# Altium footprint library CAP_SMD.PcbLib: 8 footprints
Each footprint in its own frame and in the unit in brackets; x right, y up, seen from the top. Pads: shape width x height; smd on the part's side, far side on the other; paste and mask are expansions set on the pad; w line width, h text height; cw(c..) or ccw(c..) is an arc to the next point about the centre after c.
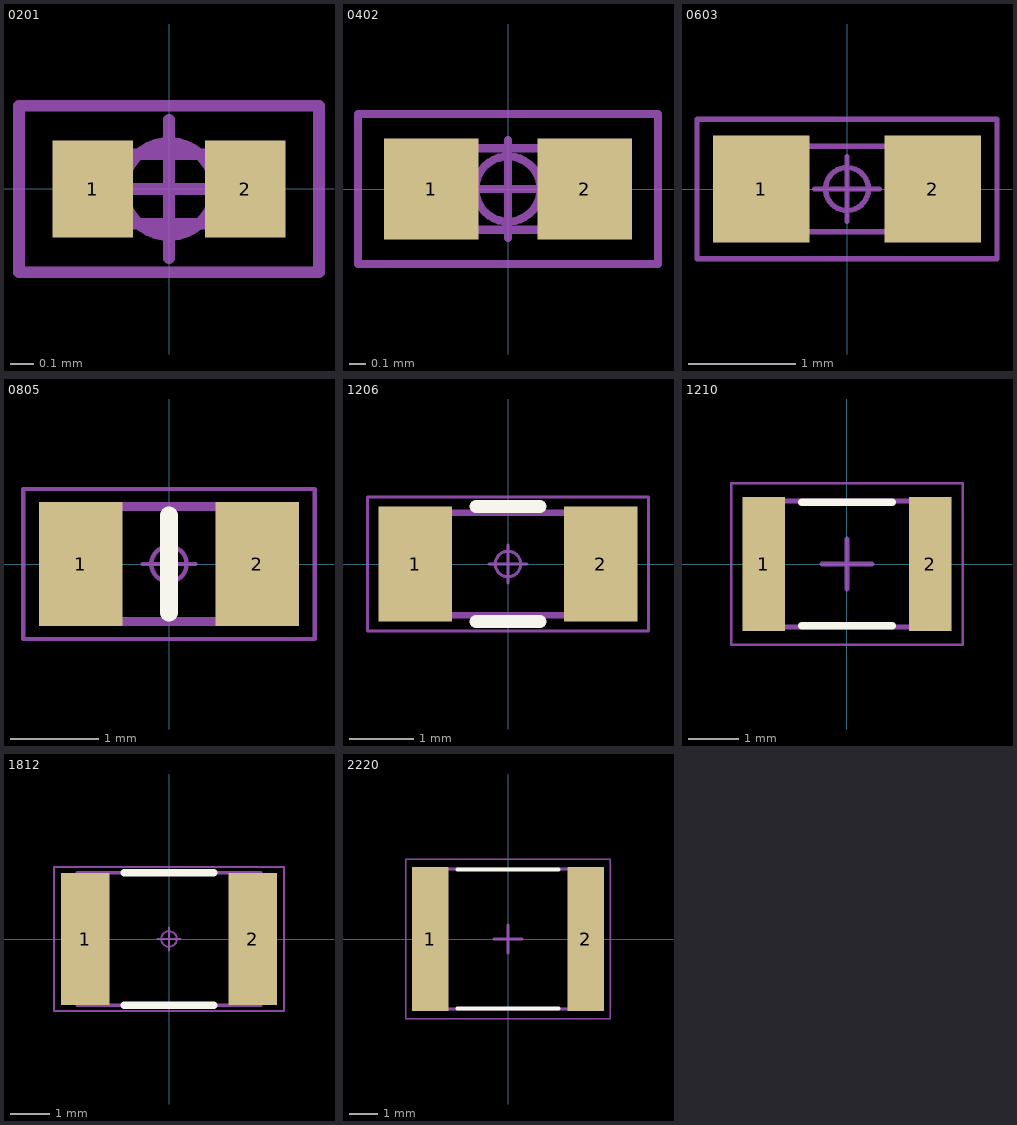
[diagram p0: the footprints below, top view; thin cyan lines are the x and y axes]

## 0201 [mm] "Chip Resistor, EIA 0201, Metric 0603, Body 0.6 x 0.3mm, IPC Medium Density"
height 0.28
pads (2):
  rect 0.35x0.42 smd: 1(-0.33,0) 2(0.33,0)
ASM Top:
  lines w0.05: -0.3,-0.15 0.3,-0.15 0.3,0.15 -0.3,0.15 -0.3,-0.15
  text ".Designator" at -0.18,-0.09 h0.15
PNP Top:
  circle w0.05: c0,0 r0.2
  lines w0.05: -0.3,0 0.3,0 ; 0,-0.3 0,0.3 ; -0.65,-0.36 0.65,-0.36 0.65,0.36 -0.65,0.36 -0.65,-0.36
3D body "CAPC0603X33N.stp": height 0.33, standoff 0, extent -0.315,-0.165 0.315,0.165

## 0402 [mm] "Chip Resistor, EIA 0402, Metric 1005, Body 1.0x0.5mm, IPC Medium Density"
height 0.4
pads (2):
  rect 0.58x0.62 smd: 1(-0.47,0) 2(0.47,0)
ASM Top:
  lines w0.05: -0.5,-0.25 -0.5,0.25 0.5,0.25 0.5,-0.25 -0.5,-0.25
  text ".Designator" at -0.35,-0.13 h0.25
PNP Top:
  circle w0.05: c0,0 r0.2
  lines w0.05: -0.3,0 0.3,0 ; 0,-0.3 0,0.3 ; -0.92,-0.46 0.92,-0.46 0.92,0.46 -0.92,0.46 -0.92,-0.46
3D body "CAPC1005X55N.stp": height 0.55, standoff 0, extent -0.525,-0.275 0.525,0.275

## 0603 [mm] "Chip Resistor, EIA 0603, Metric 1608, Body 1.6x0.8mm, IPC Medium Density"
height 0.55
pads (2):
  rect 0.9x1 smd: 1(-0.8,0) 2(0.8,0)
ASM Top:
  lines w0.05: -0.85,-0.4 0.85,-0.4 0.85,0.4 -0.85,0.4 -0.85,-0.4
  text ".Designator" at -0.7,-0.2 h0.4
PNP Top:
  circle w0.05: c0,0 r0.2
  lines w0.05: -0.3,0 0.3,0 ; 0,-0.3 0,0.3 ; -1.4,-0.65 -1.4,0.65 1.4,0.65 1.4,-0.65 -1.4,-0.65
3D body "CAPC1608X85N.stp": height 0.85, standoff 0, extent -0.875,-0.475 0.875,0.475

## 0805 [mm] "Chip Resistor, EIA 0805, Metric 2012, Body 2.0x1.2mm, IPC Medium Density"
height 0.6
pads (2):
  rect 0.95x1.4 smd: 1(-1,0) 2(1,0)
Top Overlay:
  lines w0.2: 0,-0.55 0,0.55
ASM Top:
  lines w0.1: -1.05,-0.65 -1.05,0.65 1.05,0.65 1.05,-0.65 -1.05,-0.65
  text ".Designator" at -0.85,-0.25 h0.5
PNP Top:
  circle w0.05: c0,0 r0.2
  lines w0.05: -0.3,0 0.3,0 ; 0,-0.3 0,0.3 ; -1.65,-0.85 -1.65,0.85 1.65,0.85 1.65,-0.85 -1.65,-0.85
3D body "CAPC2012X110N.stp": height 1.1, standoff 0, extent -1.05,-0.675 1.05,0.675

## 1206 [mm] "Chip Resistor, EIA 1206, Metric 3216, Body 3.2x1.6mm, IPC Medium Density"
height 0.7
pads (2):
  rect 1.15x1.8 smd: 1(-1.45,0) 2(1.45,0)
Top Overlay:
  lines w0.2: -0.5,-0.9 0.5,-0.9 ; -0.5,0.9 0.5,0.9
ASM Top:
  lines w0.1: -1.6,-0.8 1.6,-0.8 1.6,0.8 -1.6,0.8 -1.6,-0.8
  text ".Designator" at -0.85,-0.3 h0.6
PNP Top:
  circle w0.05: c0,0 r0.2
  lines w0.05: -0.3,0 0.3,0 ; 0,-0.3 0,0.3 ; -2.2,-1.05 2.2,-1.05 2.2,1.05 -2.2,1.05 -2.2,-1.05
3D body "CAPC3216X94N.stp": height 0.94, standoff 0, extent -1.7,-0.9 1.7,0.9

## 1210 [mm] "Chip Capacitor, 2-Leads, Body 3,20x2,50mm, IPC Medium Density"
height 2.2
pads (2):
  rect 0.85x2.65 smd: 1(-1.65,0) 2(1.65,0)
Top Overlay:
  lines w0.15: -0.9,-1.225 0.9,-1.225 ; -0.9,1.225 0.9,1.225
ASM Top:
  lines w0.1: -1.65,-1.25 -1.65,1.25 1.65,1.25 1.65,-1.25 -1.65,-1.25
  text ".Designator" at -0.8,-0.4 h0.7
PNP Top:
  lines w0.05: -2.3,-1.6 -2.3,1.6 2.3,1.6 2.3,-1.6 -2.3,-1.6
  lines w0.1: -0.5,0 0.5,0 ; 0,-0.5 0,0.5
3D body "CAPC3225X22N.step": height 2.2, standoff 0, extent -1.6,-1.25 1.6,1.25

## 1812 [mm] "Chip Resistor, EIA 1812, Metric 4532, 2-Leads, Body 4.5x3.2mm, IPC Medium Density"
height 0.7
pads (2):
  rect 1.25x3.4 smd: 1(-2.15,0) 2(2.15,0)
Top Overlay:
  lines w0.2: -1.15,-1.7 1.15,-1.7 ; -1.15,1.7 1.15,1.7
ASM Top:
  lines w0.1: -2.35,-1.7 -2.35,1.7 2.35,1.7 2.35,-1.7 -2.35,-1.7
  text ".Designator" at -1.7,-0.45 h1
PNP Top:
  circle w0.05: c0,0 r0.2
  lines w0.05: -0.3,0 0.3,0 ; 0,-0.3 0,0.3 ; -2.95,-1.85 -2.95,1.85 2.95,1.85 2.95,-1.85 -2.95,-1.85
3D body "CAPC4532X110N.stp": height 1.1, standoff 0, extent -2.25,-1.6 2.25,1.6

## 2220 [mm] "Chip Capacitor, 2-Leads, Body 5,90x5,00mm, IPC Medium Density"
height 2.55
pads (2):
  rect 1.3x5.15 smd: 1(-2.775,0) 2(2.775,0)
Top Overlay:
  lines w0.15: -1.8,-2.475 1.8,-2.475 ; -1.8,2.475 1.8,2.475
ASM Top:
  lines w0.1: -2.8,-2.5 -2.8,2.5 2.8,2.5 2.8,-2.5 -2.8,-2.5
  text ".Designator" at -1.7,-0.45 h1
PNP Top:
  lines w0.05: -3.65,-2.85 3.65,-2.85 3.65,2.85 -3.65,2.85 -3.65,-2.85
  lines w0.1: -0.5,0 0.5,0 ; 0,-0.5 0,0.5
3D body "CAPC5950X26N.step": height 2.55, standoff 0, extent -2.95,-2.5 2.95,2.5